# Altium footprint library Microchip Power Management Power MOSFET.PcbLib: 2 footprints
Each footprint in its own frame and in the unit in brackets; x right, y up, seen from the top. Pads: shape width x height; smd on the part's side, far side on the other; paste and mask are expansions set on the pad; w line width, h text height; cw(c..) or ccw(c..) is an arc to the next point about the centre after c.
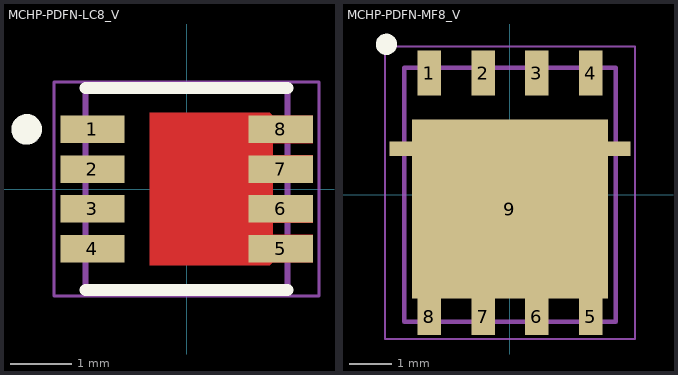
[diagram p0: the footprints below, top view; thin cyan lines are the x and y axes]

## MCHP-PDFN-LC8_V [mm] "SON, 8-Leads, Body 3.3x3.3mm, Pitch 0.65mm"
height 1.03
pads (8):
  rect 1.05x0.45 smd: 1(-1.54,0.975) 2(-1.54,0.325) 3(-1.54,-0.325) 4(-1.54,-0.975) 5(1.54,-0.975) 6(1.54,-0.325) 7(1.54,0.325) 8(1.54,0.975)
Top Layer:
  region: 2.065,-0.75 1.405,-0.75 1.405,-0.55 2.065,-0.55 2.065,-0.1 1.405,-0.1 1.405,0.1 2.065,0.1 2.065,0.55 1.405,0.55 1.405,0.75 2.065,0.75 2.065,1.2 1.405,1.2 1.36,1.245 -0.605,1.245 -0.605,-1.245 1.36,-1.245 1.405,-1.2 2.065,-1.2
Top Overlay:
  circle w0.25: c-2.615,0.975 r0.125
  lines w0.2: -1.65,-1.65 1.65,-1.65 ; -1.65,1.65 1.65,1.65
Mechanical 13:
  lines w0.1: -1.65,-1.65 1.65,-1.65 1.65,1.65 -1.65,1.65 -1.65,-1.65
Mechanical 15:
  lines w0.05: -2.165,-1.75 2.165,-1.75 2.165,1.75 -2.165,1.75 -2.165,-1.75
  lines w0.1: -0.5,0 0.5,0 ; 0,-0.5 0,0.5
3D body: height 1.03, standoff 0.05, extent -1.65,-1.65 1.65,1.65

## MCHP-PDFN-MF8_V [mm] "PDFN, 8-Leads, Body 6x5mm, Pitch 1.27mm"
height 1.03
pads (11):
  rect 0.56x1.06 smd: 1(-1.905,2.875) 2(-0.635,2.875) 3(0.635,2.875) 4(1.905,2.875)
  rect 0.56x0.86 smd: 5(1.905,-2.875) 6(0.635,-2.875) 7(-0.635,-2.875) 8(-1.905,-2.875)
  rect 4.62x4.22 smd: 9(0,-0.335)
  rect 0.54x0.35 smd: ""(-2.58,1.09) ""(2.58,1.09)
Top Overlay:
  circle w0.25: c-2.919,3.556 r0.125
Mechanical 13:
  lines w0.1: -2.5,-3 2.5,-3 2.5,3 -2.5,3 -2.5,-3
Mechanical 15:
  lines w0.05: -2.95,-3.405 2.95,-3.405 2.95,3.505 -2.95,3.505 -2.95,-3.405
  lines w0.1: -0.5,0 0.5,0 ; 0,-0.5 0,0.5
3D body: height 1.03, standoff 0, extent -2.5,-3 2.5,3